# EAGLE library part M5-PQFP208 (library amd-mach)
AMD MACH SERIES
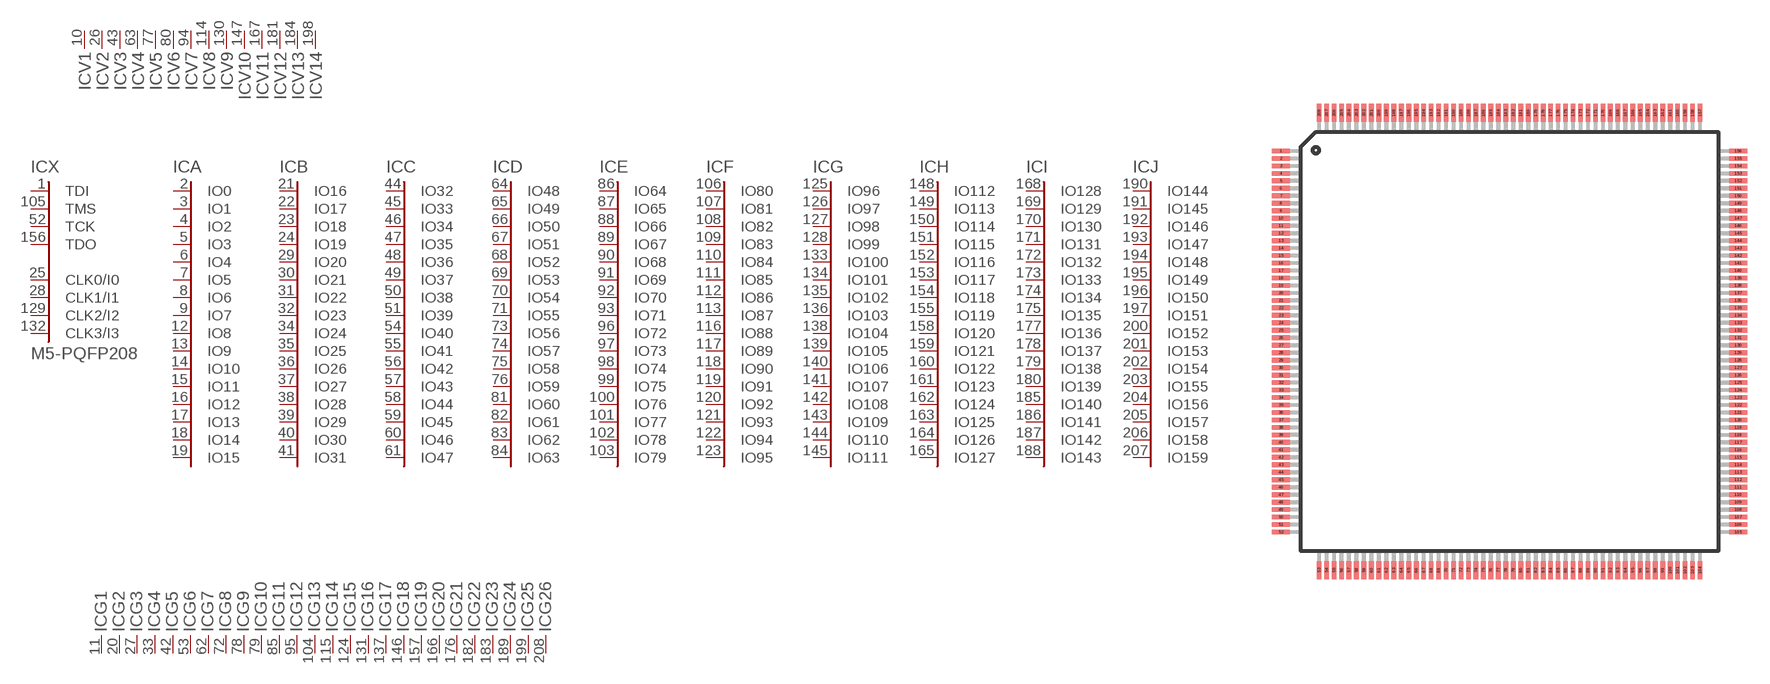
[diagram p30: symbol with the pads of PQFP208; footprint PQFP208]

Designator prefix IC; gates X=M5-CTRL A=IO15 B=IO31 C=IO47 D=IO63 E=IO79 F=IO95 G=IO111 H=IO127 I=IO143 J=IO159 G1=GND G2=GND G3=GND G4=GND G5=GND G6=GND G7=GND G8=GND G9=GND G10=GND G11=GND G12=GND G13=GND G14=GND G15=GND G16=GND G17=GND G18=GND G19=GND G20=GND G21=GND G22=GND G23=GND G24=GND G25=GND G26=GND V1=VCC V2=VCC V3=VCC V4=VCC V5=VCC V6=VCC V7=VCC V8=VCC V9=VCC V10=VCC V11=VCC V12=VCC V13=VCC V14=VCC

## M5-PQFP208 (OC_FARNELL: unknown; OC_NEWARK: unknown)  [PQFP208]
1  X:TDI  in
2  A:IO0
3  A:IO1
4  A:IO2
5  A:IO3
6  A:IO4
7  A:IO5
8  A:IO6
9  A:IO7
10  V1:VCC  pwr
11  G1:GND  pwr
12  A:IO8
13  A:IO9
14  A:IO10
15  A:IO11
16  A:IO12
17  A:IO13
18  A:IO14
19  A:IO15
20  G2:GND  pwr
21  B:IO16
22  B:IO17
23  B:IO18
24  B:IO19
25  X:CLK0/I0  in
26  V2:VCC  pwr
27  G3:GND  pwr
28  X:CLK1/I1  in
29  B:IO20
30  B:IO21
31  B:IO22
32  B:IO23
33  G4:GND  pwr
34  B:IO24
35  B:IO25
36  B:IO26
37  B:IO27
38  B:IO28
39  B:IO29
40  B:IO30
41  B:IO31
42  G5:GND  pwr
43  V3:VCC  pwr
44  C:IO32
45  C:IO33
46  C:IO34
47  C:IO35
48  C:IO36
49  C:IO37
50  C:IO38
51  C:IO39
52  X:TCK  in
53  G6:GND  pwr
54  C:IO40
55  C:IO41
56  C:IO42
57  C:IO43
58  C:IO44
59  C:IO45
60  C:IO46
61  C:IO47
62  G7:GND  pwr
63  V4:VCC  pwr
64  D:IO48
65  D:IO49
66  D:IO50
67  D:IO51
68  D:IO52
69  D:IO53
70  D:IO54
71  D:IO55
72  G8:GND  pwr
73  D:IO56
74  D:IO57
75  D:IO58
76  D:IO59
77  V5:VCC  pwr
78  G9:GND  pwr
79  G10:GND  pwr
80  V6:VCC  pwr
81  D:IO60
82  D:IO61
83  D:IO62
84  D:IO63
85  G11:GND  pwr
86  E:IO64
87  E:IO65
88  E:IO66
89  E:IO67
90  E:IO68
91  E:IO69
92  E:IO70
93  E:IO71
94  V7:VCC  pwr
95  G12:GND  pwr
96  E:IO72
97  E:IO73
98  E:IO74
99  E:IO75
100  E:IO76
101  E:IO77
102  E:IO78
103  E:IO79
104  G13:GND  pwr
105  X:TMS  in
106  F:IO80
107  F:IO81
108  F:IO82
109  F:IO83
110  F:IO84
111  F:IO85
112  F:IO86
113  F:IO87
114  V8:VCC  pwr
115  G14:GND  pwr
116  F:IO88
117  F:IO89
118  F:IO90
119  F:IO91
120  F:IO92
121  F:IO93
122  F:IO94
123  F:IO95
124  G15:GND  pwr
125  G:IO96
126  G:IO97
127  G:IO98
128  G:IO99
129  X:CLK2/I2  in
130  V9:VCC  pwr
131  G16:GND  pwr
132  X:CLK3/I3  in
133  G:IO100
134  G:IO101
135  G:IO102
136  G:IO103
137  G17:GND  pwr
138  G:IO104
139  G:IO105
140  G:IO106
141  G:IO107
142  G:IO108
143  G:IO109
144  G:IO110
145  G:IO111
146  G18:GND  pwr
147  V10:VCC  pwr
148  H:IO112
149  H:IO113
150  H:IO114
151  H:IO115
152  H:IO116
153  H:IO117
154  H:IO118
155  H:IO119
156  X:TDO  in
157  G19:GND  pwr
158  H:IO120
159  H:IO121
160  H:IO122
161  H:IO123
162  H:IO124
163  H:IO125
164  H:IO126
165  H:IO127
166  G20:GND  pwr
167  V11:VCC  pwr
168  I:IO128
169  I:IO129
170  I:IO130
171  I:IO131
172  I:IO132
173  I:IO133
174  I:IO134
175  I:IO135
176  G21:GND  pwr
177  I:IO136
178  I:IO137
179  I:IO138
180  I:IO139
181  V12:VCC  pwr
182  G22:GND  pwr
183  G23:GND  pwr
184  V13:VCC  pwr
185  I:IO140
186  I:IO141
187  I:IO142
188  I:IO143
189  G24:GND  pwr
190  J:IO144
191  J:IO145
192  J:IO146
193  J:IO147
194  J:IO148
195  J:IO149
196  J:IO150
197  J:IO151
198  V14:VCC  pwr
199  G25:GND  pwr
200  J:IO152
201  J:IO153
202  J:IO154
203  J:IO155
204  J:IO156
205  J:IO157
206  J:IO158
207  J:IO159
208  G26:GND  pwr

## Footprint PQFP208 (pad centres in mm)
PLASTIC QUAD FLAT PACK
smd 1.2 x 0.32: 1 -15.3,12.75; 2 -15.3,12.25; 3 -15.3,11.75; 4 -15.3,11.25; 5 -15.3,10.75; 6 -15.3,10.25; 7 -15.3,9.75; 8 -15.3,9.25; 9 -15.3,8.75; 10 -15.3,8.25; 11 -15.3,7.75; 12 -15.3,7.25; 13 -15.3,6.75; 14 -15.3,6.25; 15 -15.3,5.75; 16 -15.3,5.25; 17 -15.3,4.75; 18 -15.3,4.25; 19 -15.3,3.75; 20 -15.3,3.25; 21 -15.3,2.75; 22 -15.3,2.25; 23 -15.3,1.75; 24 -15.3,1.25; 25 -15.3,0.75; 26 -15.3,0.25; 27 -15.3,-0.25; 28 -15.3,-0.75; 29 -15.3,-1.25; 30 -15.3,-1.75; 31 -15.3,-2.25; 32 -15.3,-2.75; 33 -15.3,-3.25; 34 -15.3,-3.75; 35 -15.3,-4.25; 36 -15.3,-4.75; 37 -15.3,-5.25; 38 -15.3,-5.75; 39 -15.3,-6.25; 40 -15.3,-6.75; 41 -15.3,-7.25; 42 -15.3,-7.75; 43 -15.3,-8.25; 44 -15.3,-8.75; 45 -15.3,-9.25; 46 -15.3,-9.75; 47 -15.3,-10.25; 48 -15.3,-10.75; 49 -15.3,-11.25; 50 -15.3,-11.75; 51 -15.3,-12.25; 52 -15.3,-12.75; 105 15.3,-12.75; 106 15.3,-12.25; 107 15.3,-11.75; 108 15.3,-11.25; 109 15.3,-10.75; 110 15.3,-10.25; 111 15.3,-9.75; 112 15.3,-9.25; 113 15.3,-8.75; 114 15.3,-8.25; 115 15.3,-7.75; 116 15.3,-7.25; 117 15.3,-6.75; 118 15.3,-6.25; 119 15.3,-5.75; 120 15.3,-5.25; 121 15.3,-4.75; 122 15.3,-4.25; 123 15.3,-3.75; 124 15.3,-3.25; 125 15.3,-2.75; 126 15.3,-2.25; 127 15.3,-1.75; 128 15.3,-1.25; 129 15.3,-0.75; 130 15.3,-0.25; 131 15.3,0.25; 132 15.3,0.75; 133 15.3,1.25; 134 15.3,1.75; 135 15.3,2.25; 136 15.3,2.75; 137 15.3,3.25; 138 15.3,3.75; 139 15.3,4.25; 140 15.3,4.75; 141 15.3,5.25; 142 15.3,5.75; 143 15.3,6.25; 144 15.3,6.75; 145 15.3,7.25; 146 15.3,7.75; 147 15.3,8.25; 148 15.3,8.75; 149 15.3,9.25; 150 15.3,9.75; 151 15.3,10.25; 152 15.3,10.75; 153 15.3,11.25; 154 15.3,11.75; 155 15.3,12.25; 156 15.3,12.75
smd 0.32 x 1.2: 53 -12.75,-15.3; 54 -12.25,-15.3; 55 -11.75,-15.3; 56 -11.25,-15.3; 57 -10.75,-15.3; 58 -10.25,-15.3; 59 -9.75,-15.3; 60 -9.25,-15.3; 61 -8.75,-15.3; 62 -8.25,-15.3; 63 -7.75,-15.3; 64 -7.25,-15.3; 65 -6.75,-15.3; 66 -6.25,-15.3; 67 -5.75,-15.3; 68 -5.25,-15.3; 69 -4.75,-15.3; 70 -4.25,-15.3; 71 -3.75,-15.3; 72 -3.25,-15.3; 73 -2.75,-15.3; 74 -2.25,-15.3; 75 -1.75,-15.3; 76 -1.25,-15.3; 77 -0.75,-15.3; 78 -0.25,-15.3; 79 0.25,-15.3; 80 0.75,-15.3; 81 1.25,-15.3; 82 1.75,-15.3; 83 2.25,-15.3; 84 2.75,-15.3; 85 3.25,-15.3; 86 3.75,-15.3; 87 4.25,-15.3; 88 4.75,-15.3; 89 5.25,-15.3; 90 5.75,-15.3; 91 6.25,-15.3; 92 6.75,-15.3; 93 7.25,-15.3; 94 7.75,-15.3; 95 8.25,-15.3; 96 8.75,-15.3; 97 9.25,-15.3; 98 9.75,-15.3; 99 10.25,-15.3; 100 10.75,-15.3; 101 11.25,-15.3; 102 11.75,-15.3; 103 12.25,-15.3; 104 12.75,-15.3; 157 12.75,15.3; 158 12.25,15.3; 159 11.75,15.3; 160 11.25,15.3; 161 10.75,15.3; 162 10.25,15.3; 163 9.75,15.3; 164 9.25,15.3; 165 8.75,15.3; 166 8.25,15.3; 167 7.75,15.3; 168 7.25,15.3; 169 6.75,15.3; 170 6.25,15.3; 171 5.75,15.3; 172 5.25,15.3; 173 4.75,15.3; 174 4.25,15.3; 175 3.75,15.3; 176 3.25,15.3; 177 2.75,15.3; 178 2.25,15.3; 179 1.75,15.3; 180 1.25,15.3; 181 0.75,15.3; 182 0.25,15.3; 183 -0.25,15.3; 184 -0.75,15.3; 185 -1.25,15.3; 186 -1.75,15.3; 187 -2.25,15.3; 188 -2.75,15.3; 189 -3.25,15.3; 190 -3.75,15.3; 191 -4.25,15.3; 192 -4.75,15.3; 193 -5.25,15.3; 194 -5.75,15.3; 195 -6.25,15.3; 196 -6.75,15.3; 197 -7.25,15.3; 198 -7.75,15.3; 199 -8.25,15.3; 200 -8.75,15.3; 201 -9.25,15.3; 202 -9.75,15.3; 203 -10.25,15.3; 204 -10.75,15.3; 205 -11.25,15.3; 206 -11.75,15.3; 207 -12.25,15.3; 208 -12.75,15.3